# Altium footprint library BMI_HEARDER_4mm.PcbLib: 1 footprints
Each footprint in its own frame and in the unit in brackets; x right, y up, seen from the top. Pads: shape width x height; smd on the part's side, far side on the other; paste and mask are expansions set on the pad; w line width, h text height; cw(c..) or ccw(c..) is an arc to the next point about the centre after c.
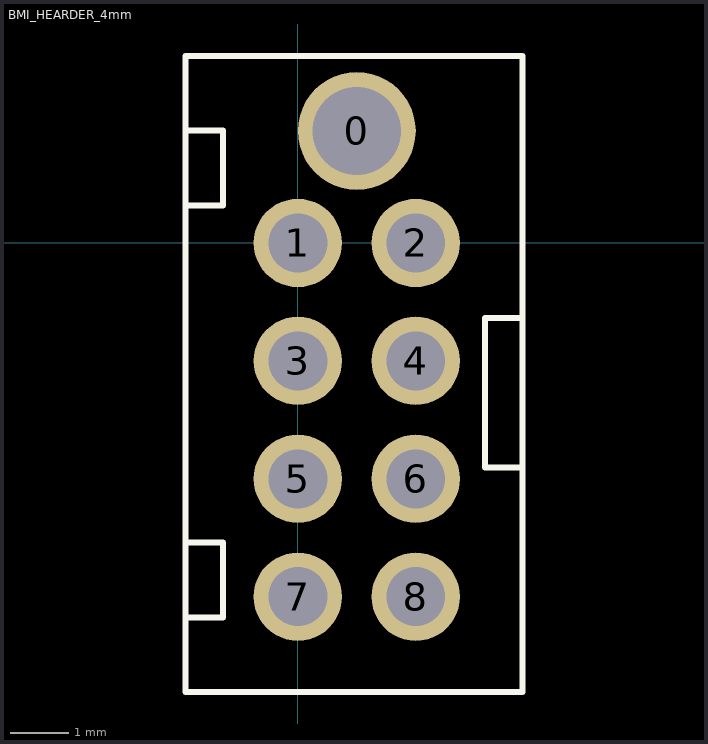
[diagram p0: the footprint, top view; thin cyan lines are the x and y axes]

## BMI_HEARDER_4mm [mm]
pads (9):
  round 2 hole 1.5: 0(1,1.9)
  round 1.5 hole 1: 1(0,0) 2(2,0) 3(0,-2) 4(2,-2) 5(0,-4) 6(2,-4) 7(0,-6) 8(2,-6)
Top Overlay:
  lines w0.1: -1.905,-6.35 -1.27,-6.35 -1.27,-5.08 -1.905,-5.08 ; -1.905,0.635 -1.27,0.635 -1.27,1.905 -1.905,1.905 ; 3.81,-3.81 3.175,-3.81 3.175,-3.175 3.175,-1.905 3.175,-1.27 3.81,-1.27 ; -1.905,-7.62 3.81,-7.62 3.81,3.175 -1.905,3.175 -1.905,-7.62